# Altium footprint library cooler3030.PcbLib: 1 footprints
Each footprint in its own frame and in the unit in brackets; x right, y up, seen from the top. Pads: shape width x height; smd on the part's side, far side on the other; paste and mask are expansions set on the pad; w line width, h text height; cw(c..) or ccw(c..) is an arc to the next point about the centre after c.
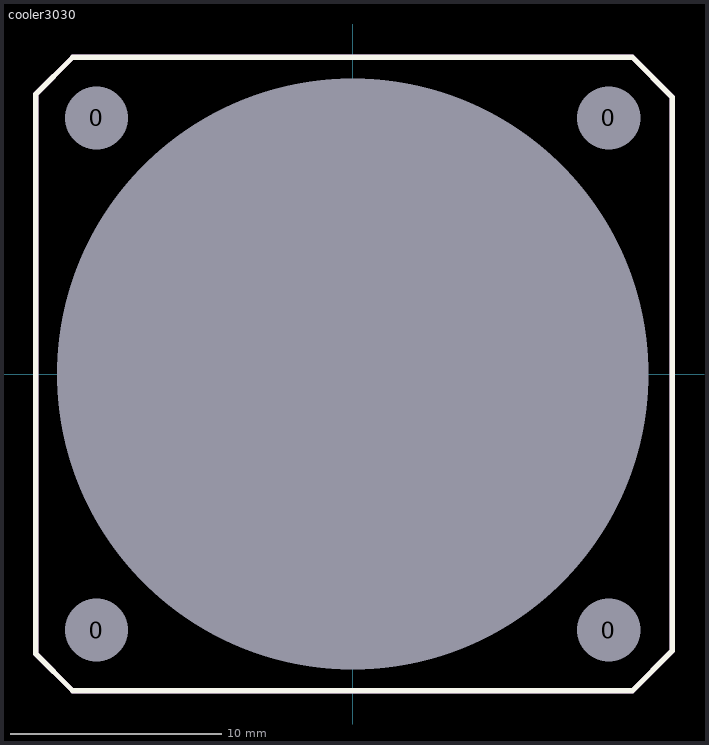
[diagram p0: the footprint, top view; thin cyan lines are the x and y axes]

## cooler3030 [mm]
pads (5):
  round 1.4 hole 3 unplated: 0(-12.125,-12.125) 0(-12.125,12.125) 0(12.125,-12.125) 0(12.125,12.125)
  round 0 hole 28 unplated: 0(0,0)
Top Overlay:
  lines w0.254: -15,-13.25 -13.25,-15 13.25,-15 15.133,-13.117 15.133,13.117 13.25,15 -13.25,15 -15,13.25 -15,-13.25
Mechanical 13:
  lines w0.254: -15,-13.25 -13.25,-15 13.25,-15 15.133,-13.117 15.133,13.117 13.25,15 -13.25,15 -15,13.25 -15,-13.25
3D body "User Library-Fan-3.STEP": height 6.6, standoff 0.1, extent -15.1,-15.1 15.1,15.1